# EAGLE library part WE-DS_244617113 (library Wurth_Elektronik_Passive_rev16b)
WE-DS D-SUB-Filter Connectors Bent 90° Characteristics Standard type filtered with 1000 pF High attenuation of more than 40 dB @ 180 MHz Low size: 6.3 mm Rated voltage: 125 VDC Rated current @ 20 ºC: 5 A Withstand voltage: 250 VRMS Insulation resistance: min. 1000 MΩ Operating temperature: –55 ºC to +125 ºC Applications Filtering of interfaces External connection to -printer -sensor -display <http://katalog.we-online.de/media/thumbs2/eisos/thb_AbsDSubFilter_SMD_pf2.jpg> Details see: http://katalog.we-online.de/en/pbs/D-SUB-Filter Bent 90° <http://katalog.we-online.de/en/pbs/Filter_SMD?sid=29b915c42a> Created on 2015-05-04 2015 (C) Wurth Elektronik
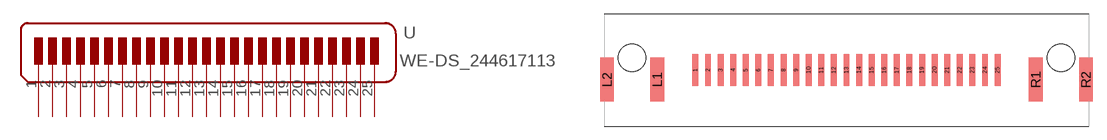
[diagram p217: symbol with the pads of WE-DS_244617113; footprint WE-DS_244617113]

Designator prefix -

## WE-DS_244617113  [WE-DS_244617113]
1  1
2  2
3  3
4  4
5  5
6  6
7  7
8  8
9  9
10  10
11  11
12  12
13  13
14  14
15  15
16  16
17  17
18  18
19  19
20  20
21  21
22  22
23  23
24  24
25  25

## Footprint WE-DS_244617113 (pad centres in mm)
smd 0.65 x 3.5: 1 -16.56,0; 2 -15.18,0; 3 -13.8,0; 4 -12.42,0; 5 -11.04,0; 6 -9.66,0; 7 -8.28,0; 8 -6.9,0; 9 -5.52,0; 10 -4.14,0; 11 -2.76,0; 12 -1.38,0; 13 0,0; 14 1.38,0; 15 2.76,0; 16 4.14,0; 17 5.52,0; 18 6.9,0; 19 8.28,0; 20 9.66,0; 21 11.04,0; 22 12.42,0; 23 13.8,0; 24 15.18,0; 25 16.56,0
smd 1.5 x 4.8: L1 -20.75,-1.05; L2 -26.25,-1.05; R1 20.75,-1.05; R2 26.25,-1.05
hole 3 at -23.5,1.35
hole 3 at 23.5,1.35